# EAGLE library part 10129381-908002BLF (library rcbussbc)
Headers & Wire Housings ECONOSTIK HEADER DR VT TH 2X4 Source: Datasheet <https://cdn.amphenol-icc.com/media/wysiwyg/files/drawing/10129381.pdf>
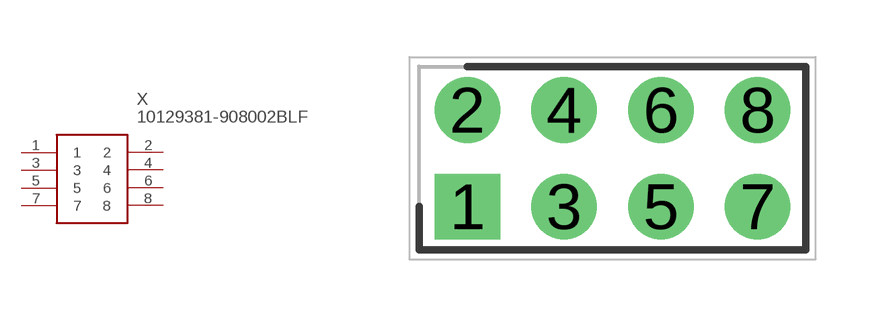
[diagram p6: symbol with the pads of HDRV8W67P254_2X4_1016X483X858P; footprint HDRV8W67P254_2X4_1016X483X858P]

Designator prefix X

## 10129381-908002BLF (DESCRIPTION: Headers & Wire Housings ECONOSTIK HEADER DR VT TH 2X4; HEIGHT: 8.58mm; MANUFACTURER_NAME: Amphenol; MANUFACTURER_PART_NUMBER: 10129381-908002BLF; MOUSER_PART_NUMBER: 649-1012938190802BLF; MOUSER_PRICE-STOCK: https://www.mouser.co.uk/ProductDetail/Amphenol-FCI/10129381-908002BLF?qs=DXv0QSHKF4wp0EFafi7%252BkA%3D%3D)  [HDRV8W67P254_2X4_1016X483X858P]
1  1
2  2
3  3
4  4
5  5
6  6
7  7
8  8

## Footprint HDRV8W67P254_2X4_1016X483X858P (pad centres in mm)
HEADER 2X4
drill 1.15 pad 1.725 square: 1 0,0
drill 1.15 pad 1.725: 2 0,2.54; 3 2.54,0; 4 2.54,2.54; 5 5.08,0; 6 5.08,2.54; 7 7.62,0; 8 7.62,2.54